# EAGLE library part ARDUINO-PRO-MICRO-BOO (library diy-modules boo)
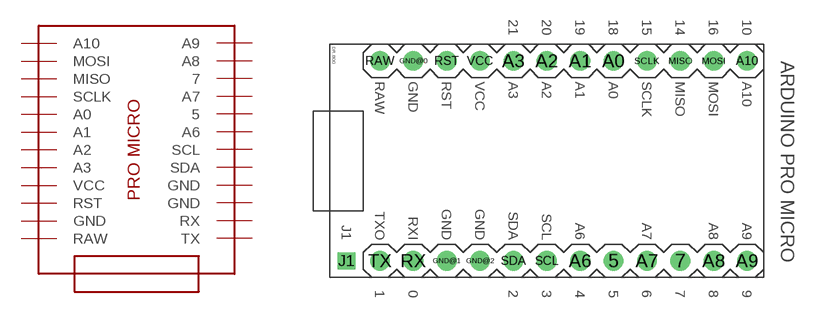
[diagram p67: symbol with the pads of ARDUINO-PRO-MICRO-BOO; footprint ARDUINO-PRO-MICRO-BOO]

Designator prefix -

## ARDUINO-PRO-MICRO-BOO  [ARDUINO-PRO-MICRO-BOO]
5  5
7  7
A0  A0
A1  A1
A2  A2
A3  A3
A6  A6
A7  A7
A8  A8
A9  A9
A10  A10
GND@0  GND
GND@1  GND
GND@2  GND
MISO  MISO
MOSI  MOSI
RAW  RAW
RST  RST
RX  RX
SCL  SCL
SCLK  SCLK
SDA  SDA
TX  TX
VCC  VCC

## Footprint ARDUINO-PRO-MICRO-BOO (pad centres in mm)
drill 1: 5 2.54,-7.62; 7 7.62,-7.62; A0 2.54,7.62; A1 0,7.62; A2 -2.54,7.62; A3 -5.08,7.62; A6 0,-7.62; A7 5.08,-7.62; A8 10.16,-7.62; A9 12.7,-7.62; A10 12.7,7.62; GND@0 -12.7,7.62; GND@1 -10.16,-7.62; GND@2 -7.62,-7.62; MISO 7.62,7.62; MOSI 10.16,7.62; RAW -15.24,7.62; RST -10.16,7.62; RX -12.7,-7.62; SCL -2.54,-7.62; SCLK 5.08,7.62; SDA -5.08,-7.62; TX -15.24,-7.62; VCC -7.62,7.62
drill 0.8 square: J1 -17.78,-7.62